# Altium schematic symbol library Schlib1.SchLib: 2 symbols
Pins are listed as number, name and electrical type; pins without a type are passive.

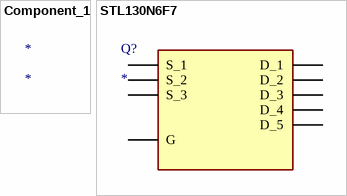
[diagram p0: symbols Component_1 to STL130N6F7]

## Component_1
designator *

## STL130N6F7
designator Q?
MOSFET (N-Channel); Manufacturer_Name: STMicroelectronics; Manufacturer_Part_Number: STL130N6F7; Datasheet Link: https://www.st.com/resource/en/datasheet/stl130n6f7.pdf; Height: 1mm; Mouser Part Number: 511-STL130N6F7; Mouser Price/Stock: https://www.mouser.co.uk/ProductDetail/STMicroelectronics/STL130N6F7?qs=bKenfurwlsn66DUeXqgWIw%3D%3D; Arrow Part Number: STL130N6F7; Arrow Price/Stock: https://www.arrow.com/en/products/stl130n6f7/stmicroelectronics?utm_currency=USD&region=nac
footprint FERD20U50DJFTR (Footprint not found)
pins: 1 S_1, 2 S_2, 3 S_3, 4 G, 5 D_1, 6 D_2, 7 D_3, 8 D_4, 9 D_5